# Altium schematic symbol library Schlib1.SchLib: 3 symbols
Pins are listed as number, name and electrical type; pins without a type are passive.

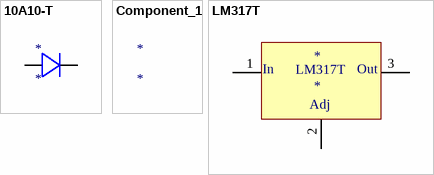
[diagram p0: symbols 10A10-T to LM317T]

## 10A10-T
designator *
Rectifiers Silicon Rectifier R6,10A,1000V; Manufacturer: Rectron; Manufacturer Part Number: 10A10-T; Element Configuration: Single; Max Surge Current: 400A; Max Reverse Current: 10uA; Reverse Voltage: 1kV; Forward Voltage: 1.1V; Supplier 1: Arrow Electronics; RoHS: Yes; Category: Rectifier Diodes; Stock 1: 2; Pricing 1: 1=0,32310, 800=0,36890, 6400=0,10300, 6400=0,10970 (USD); Case/Package: R; Weight: 0.074075oz; Min Operating Temperature: -55°C; Max Operating Temperature: 150°C; Packaging: Tape and Reel; Package Quantity: 800; Series: 10A; Reverse Voltage (DC): 1kV; Forward Current: 10A; Length: 9.1mm; Width: 9.1mm; Height: 9.1mm; RoHS Compliant: Yes; ComponentLink1URL: http://www.mouser.com/ds/2/345/10a05-10a10-16323.pdf?src-supplier=Mouser; ComponentLink1Description: http://www.mouser.com/ds/2/345/10a05-10a10-16323.pdf?src-supplier=Mouser; ComponentLink2URL: http://www.rectron.com/data_sheets/10a05-10a10.pdf?src-supplier=Mouser; ComponentLink2Description: http://www.rectron.com/data_sheets/10a05-10a10.pdf?src-supplier=Mouser; Supplier Part Number 1: 10A10-T
pins: 0, 1

## Component_1
designator *

## LM317T
designator *
IC REG LIN POS ADJ 1.5A TO220AB; Manufacturer: ON Semiconductor / Fairchild; Manufacturer Part Number: LM317T; Number of Outputs: 1; Output Voltage: 37V; Polarity: Positive; Output Type: Adjustable; Max Input Voltage: 40V; Min Input Voltage: 4.2V; Min Output Voltage: 1.2V; Reference Voltage: 1.3V; Power Supply Rejection Ratio (PSRR): 60dB; Dropout Voltage: 2V; Power Rating: 20W; Supplier 1: Avnet; RoHS: Yes; Category: Voltage Regulators - Linear; Stock 1: 199474; Pricing 1: 331=1,07281, 340=1,05770, 670=1,02748, 1700=1,00482, 3400=0,96704, 17000=0,94438, 34000=0,92171 (USD); Mount: Through Hole; Case/Package: TO-220; Number of Pins: 3; Weight: 0.042823oz; Contact Plating: Tin,Matte; Min Operating Temperature: 0°C; Max Operating Temperature: 125°C; Output Current: 1.5A; Packaging: Rail/Tube; Max Output Current: 1.5A; Package Quantity: 50; Max Output Voltage: 37V; Number of Regulators: 1; Min Current Limit: 1.5A; Max Power Dissipation: 20W; Length: 10.67mm; Width: 4.83mm; Height: 9.4mm; Radiation Hardening: No; RoHS Compliant: Yes; REACH SVHC: No SVHC; Lead Free: Lead Free; ComponentLink1URL: https://datasheet.ciiva.com/4882/lm317-64104-4882145.pdf?src-supplier=Mouser; ComponentLink1Description: https://datasheet.ciiva.com/4882/lm317-64104-4882145.pdf?src-supplier=Mouser; ComponentLink2URL: https://datasheet.ciiva.com/2070/lm317-d-2070714.pdf?src-supplier=Digi-Key; ComponentLink2Description: https://datasheet.ciiva.com/2070/lm317-d-2070714.pdf?src-supplier=Digi-Key; Supplier Part Number 1: LM317T
pins: 1 In, 2 Adj, 3 Out